# Altium footprint library Bicycle_Project.PcbLib: 21 footprints (part 1 of 2)
Each footprint in its own frame and in the unit in brackets; x right, y up, seen from the top. Pads: shape width x height; smd on the part's side, far side on the other; paste and mask are expansions set on the pad; w line width, h text height; cw(c..) or ccw(c..) is an arc to the next point about the centre after c.
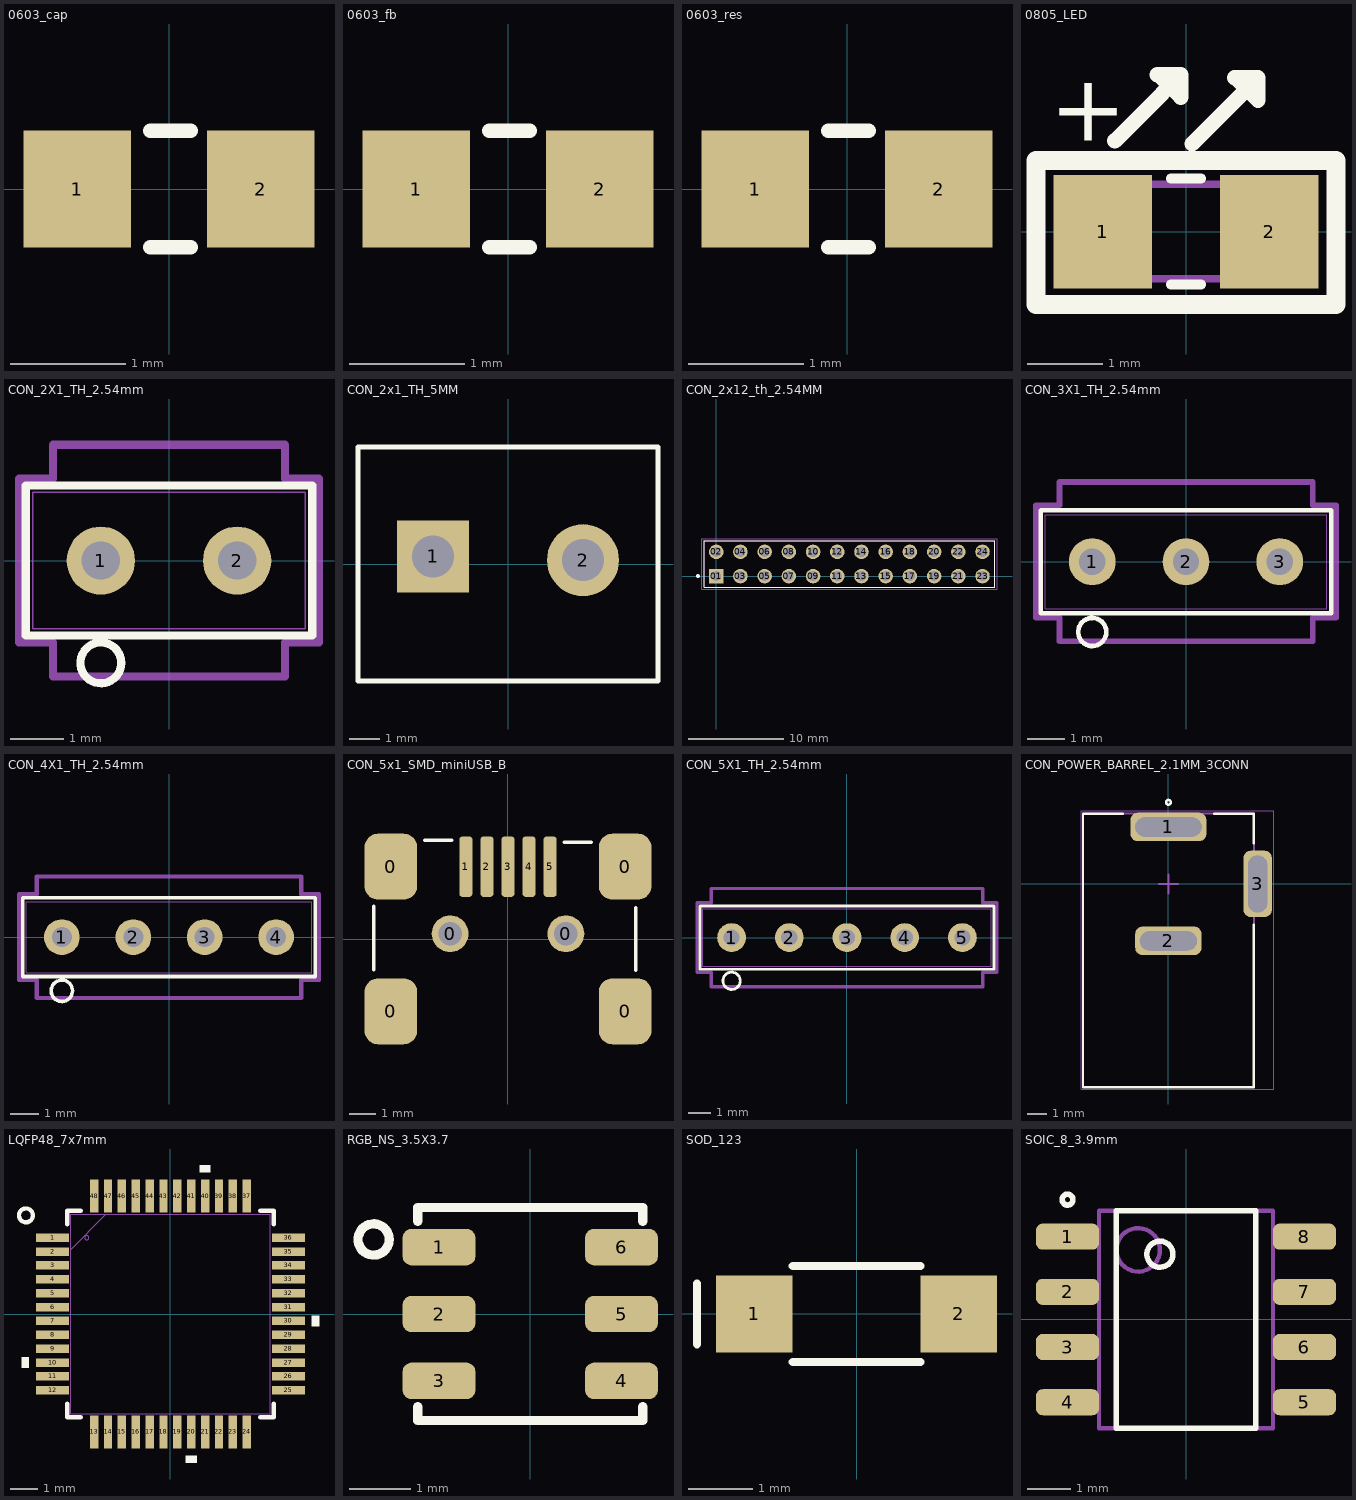
[diagram p0: the footprints below, top view; thin cyan lines are the x and y axes]

## 0603_cap [mil]
pads (2):
  rect 37x40 smd: 1(-31.5,0) 2(31.5,0)
Top Overlay:
  lines w5: -6.5,-20 7.5,-20 ; -6.5,20 7.5,20
3D body "CircuitWorks-CAPACITOR 0603.STEP": height 34.36, standoff 0.5, extent -31.5,-16.93 31.5,16.93

## 0603_fb [mil]
pads (2):
  rect 37x40 smd: 1(-31.5,0) 2(31.5,0)
Top Overlay:
  lines w5: -6.5,-20 7.5,-20 ; -6.5,20 7.5,20
3D body "742792602.stp": height 32, standoff 0.5, extent -31.5,-15.75 31.49,15.75

## 0603_res [mil]
pads (2):
  rect 37x40 smd: 1(-31.5,0) 2(31.5,0)
Top Overlay:
  lines w5: -6.5,-20 7.5,-20 ; -6.5,20 7.5,20
3D body "C0603.step": height 11.89, standoff 0, extent -31.5,-15.75 31.5,15.75

## 0805_LED [mm]
pads (2):
  rect 1.3x1.5 smd: 1(-1.1,0) 2(1.1,0)
Top Overlay:
  lines w0.127: -0.2,-0.7 0.2,-0.7 ; -0.2,0.7 0.2,0.7
  lines w0.203: -0.941,1.197 -0.306,1.832 ; -0.38,2.072 -0.069,2.072 -0.069,1.775 -0.366,2.072 ; 0.079,1.157 0.714,1.792 ; 0.64,2.032 0.951,2.032 0.951,1.735 0.654,2.032
  lines w0.254: -1.981,-0.965 -1.981,0.94 1.981,0.94 1.981,-0.965 -1.981,-0.965
  text "+" at -1.8,1.2 h0.89
Mechanical 1:
  lines w0.1: -0.7,-0.625 -0.7,0.625 ; 0.7,-0.625 0.7,0.625 ; -1,-0.625 -1,0.625 1,0.625 1,-0.625 -1,-0.625
3D body: height 0.5, standoff 0, extent -1,-0.625 1,0.625
3D body: height 1.1, standoff 0.5, extent -0.7,-0.625 0.7,0.625

## CON_2X1_TH_2.54mm [mil]
pads (2):
  round 50 / inner round 60 / far side round 50 hole 28 paste-99999 mask+0: 1(-50,0) 2(50,0)
Top Overlay:
  circle w6: c-50,-75 r15
  lines w6: -105,-55 -105,55 105,55 105,-55 -105,-55
Bottom Overlay:
  circle w20: c-50,-75 r15
Mechanical 13:
  circle w0: c-50,0 r10
  lines w1: -100,-50 -100,50 100,50 100,-50 -100,-50
Mechanical 15:
  lines w6: -110,-60 -85,-60 -85,-85 85,-85 85,-60 110,-60 110,60 85,60 85,85 -85,85 -85,60 -110,60 -110,-60
3D body "TS-102-T-A.step": height 326, standoff -151, extent -104,-50 104,50

## CON_2x1_TH_5MM [mm]
pads (2):
  rect 2.4x2.4 hole 1.4: 1(-2.5,0.254)
  round 2.4 hole 1.4: 2(2.5,0.127)
Top Overlay:
  lines w0.152: -5,-3.9 5,-3.9 5,3.9 -5,3.9 -5,-3.9
3D body "691137710002.step": height 11.5, standoff -3.6, extent -5,-3.75 5,3.75

## CON_2x12_th_2.54MM [mm]
height 10
pads (24):
  rect 1.53x1.53 hole 1.02: 01(0,0)
  round 1.53 hole 1.02: 02(0,2.54) 03(2.54,0) 04(2.54,2.54) 05(5.08,0) 06(5.08,2.54) 07(7.62,0) 08(7.62,2.54) 09(10.16,0) 10(10.16,2.54) 11(12.7,0) 12(12.7,2.54) 13(15.24,0) 14(15.24,2.54) 15(17.78,0) 16(17.78,2.54) 17(20.32,0) 18(20.32,2.54) 19(22.86,0) 20(22.86,2.54) 21(25.4,0) 22(25.4,2.54) 23(27.94,0) 24(27.94,2.54)
Top Overlay:
  circle w0.2: c-1.92,0 r0.1
  lines w0.127: -1.27,-1.145 -1.27,3.685 29.21,3.685 29.21,-1.145 -1.27,-1.145
Mechanical 13:
  circle w0.2: c-1.92,0 r0.1
  lines w0.127: -1.27,-1.145 -1.27,3.685 ; -1.27,-1.145 29.21,-1.145 ; -1.27,-1.145 -1.27,3.685 ; -1.27,3.685 29.21,3.685 ; -1.27,3.685 29.21,3.685 ; 29.21,-1.145 29.21,3.685 ; 29.21,-1.145 29.21,3.685
Mechanical 15:
  lines w0.05: -1.52,-1.395 -1.52,3.935 29.46,3.935 29.46,-1.395 -1.52,-1.395
3D body "step_temp.STEP": height 8.18, standoff -3.25, extent -1.27,-1.145 29.21,3.685

## CON_3X1_TH_2.54mm [mil]
pads (3):
  round 50 / inner round 60 / far side round 50 hole 28 paste-99999 mask+0: 1(-100,0) 2(0,0) 3(100,0)
Top Overlay:
  circle w5: c-100,-75 r15
  lines w5: -155,-55 -155,55 155,55 155,-55 -155,-55
Bottom Overlay:
  circle w20: c-100,-75 r15
Mechanical 13:
  circle w0: c-100,0 r10
  lines w1: -150,-50 -150,50 150,50 150,-50 -150,-50
Mechanical 15:
  lines w6: -160,-60 -135,-60 -135,-85 135,-85 135,-60 160,-60 160,60 135,60 135,85 -135,85 -135,60 -160,60 -160,-60
3D body "TS-103-T-A.step": height 326, standoff -151, extent -154,-50 154,50

## CON_4X1_TH_2.54mm [mil]
pads (4):
  round 50 / inner round 60 / far side round 50 hole 28 paste-99999 mask+0: 1(-150,0) 2(-50,0) 3(50,0) 4(150,0)
Top Overlay:
  circle w5: c-150,-75 r15
  lines w5: -205,-55 -205,55 205,55 205,-55 -205,-55
Bottom Overlay:
  circle w20: c-150,-75 r15
Mechanical 13:
  circle w0: c-150,0 r10
  lines w1: -200,-50 -200,50 200,50 200,-50 -200,-50
Mechanical 15:
  lines w6: -210,-60 -185,-60 -185,-85 185,-85 185,-60 210,-60 210,60 185,60 185,85 -185,85 -185,60 -210,60 -210,-60
3D body "TS-104-T-A.step": height 326, standoff -151, extent -204,-50 204,50

## CON_5x1_SMD_miniUSB_B [mm]
pads (11):
  rrect50% 2x2.5 smd: 0(-4.45,-2.75) 0(-4.45,2.75) 0(4.45,-2.75) 0(4.45,2.75)
  round 1.4 hole 0.889: 0(-2.2,0.2) 0(2.2,0.2)
  rrect50% 0.5x2.3 smd: 1(-1.6,2.75) 2(-0.8,2.75) 3(0,2.75) 4(0.8,2.75) 5(1.6,2.75)
Top Overlay:
  lines w0.127: -5.105,-1.172 -5.105,1.241 ; -3.175,3.756 -2.134,3.756 ; 2.134,3.68 3.175,3.68 ; 4.851,-1.197 4.851,1.191
3D body "usb_a-usb_b-m5-smd-c.stp": height 4, standoff -0.93, extent -5.102,-5.596 4.798,3.654

## CON_5X1_TH_2.54mm [mil]
pads (5):
  round 50 / inner round 60 / far side round 50 hole 28 paste-99999 mask+0: 1(-200,0) 2(-100,0) 3(0,0) 4(100,0) 5(200,0)
Top Overlay:
  circle w5: c-200,-75 r15
  lines w5: -255,-55 255,-55 255,55 -255,55 -255,-55
Bottom Overlay:
  circle w20: c-200,-75 r15
Mechanical 13:
  circle w0: c-200,0 r10
  lines w1: -250,-50 250,-50 250,50 -250,50 -250,-50
Mechanical 15:
  lines w6: -260,-60 -260,60 -235,60 -235,85 235,85 235,60 260,60 260,-60 235,-60 235,-85 -235,-85 -235,-60 -260,-60
3D body "TS-105-T-A.step": height 326, standoff -151, extent -254,-50 254,50

## CON_POWER_BARREL_2.1MM_3CONN [mm]
pads (3):
  rrect50% 4x1.5 hole 1.016 slot 3.5 at 0 deg: 1(0,3)
  rrect50% 3.5x1.5 hole 1.016 slot 3 at 0 deg: 2(0,-3)
  rrect50% 1.5x3.5 hole 1.016 slot 3 at 90 deg: 3(4.7,0)
Top Overlay:
  circle w0.127: c0,4.3 r0.125
  lines w0.127: -2.4,3.7 -4.5,3.7 -4.5,-10.7 4.5,-10.7 4.5,-2.15 ; 2.4,3.7 4.5,3.7 4.5,2.15
Mechanical 1:
  lines w0.1: -4.5,-10.7 4.5,-10.7 4.5,3.7 -4.5,3.7 -4.5,-10.7
Mechanical 15:
  lines w0.05: -4.6,-10.8 -4.6,3.85 5.55,3.85 5.55,-10.8 -4.6,-10.8
  lines w0.1: -0.5,0 0.5,0 ; 0,-0.5 0,0.5
3D body "pj-002a.stp": height 11, standoff -3.5, extent -4.5,-10.7 4.9,3.7

## LQFP48_7x7mm [mm]
pads (48):
  rect 1.194x0.305 smd paste+0 mask+0.046: 1(-4.25,2.75) 2(-4.25,2.25) 3(-4.25,1.75) 4(-4.25,1.25) 5(-4.25,0.75) 6(-4.25,0.25) 7(-4.25,-0.25) 8(-4.25,-0.75) 9(-4.25,-1.25) 10(-4.25,-1.75) 11(-4.25,-2.25) 12(-4.25,-2.75) 25(4.25,-2.75) 26(4.25,-2.25) 27(4.25,-1.75) 28(4.25,-1.25) 29(4.25,-0.75) 30(4.25,-0.25) 31(4.25,0.25) 32(4.25,0.75) 33(4.25,1.25) 34(4.25,1.75) 35(4.25,2.25) 36(4.25,2.75)
  rect 0.305x1.194 smd paste+0 mask+0.046: 13(-2.75,-4.25) 14(-2.25,-4.25) 15(-1.75,-4.25) 16(-1.25,-4.25) 17(-0.75,-4.25) 18(-0.25,-4.25) 19(0.25,-4.25) 20(0.75,-4.25) 21(1.25,-4.25) 22(1.75,-4.25) 23(2.25,-4.25) 24(2.75,-4.25) 37(2.75,4.25) 38(2.25,4.25) 39(1.75,4.25) 40(1.25,4.25) 41(0.75,4.25) 42(0.25,4.25) 43(-0.25,4.25) 44(-0.75,4.25) 45(-1.25,4.25) 46(-1.75,4.25) 47(-2.25,4.25) 48(-2.75,4.25)
Top Overlay:
  circle w0.152: c-5.207,3.556 r0.251
  region: -5.101,-1.559 -5.355,-1.559 -5.355,-1.94 -5.101,-1.94
  region: 5.101,-0.059 5.355,-0.059 5.355,-0.44 5.101,-0.44
  region: 1.441,5.101 1.06,5.101 1.06,5.355 1.441,5.355
  region: 0.941,-5.101 0.56,-5.101 0.56,-5.355 0.941,-5.355
  lines w0.152: -3.721,-3.235 -3.721,-3.721 -3.235,-3.721 ; -3.721,3.235 -3.721,3.721 -3.235,3.721 ; 3.235,-3.721 3.721,-3.721 3.721,-3.235 ; 3.235,3.721 3.721,3.721 3.721,3.235
Mechanical 13:
  circle w0: c-3.018,2.75 r0.076
  lines w0.025: -3.594,2.324 -2.324,3.594 ; -3.594,-3.594 3.594,-3.594 3.594,3.594 -3.594,3.594 -3.594,-3.594
3D body "LQFP48-7x7mm.step": height 1.6, standoff 0, extent -4.497,-4.497 4.497,4.497

## RGB_NS_3.5X3.7 [mm]
pads (6):
  rrect50% 1.2x0.6 smd: 1(-1.5,1.1) 2(-1.5,0) 3(-1.5,-1.1) 4(1.5,-1.1) 5(1.5,0) 6(1.5,1.1)
Top Overlay:
  circle w0.152: c-2.575,1.225 r0.257
  lines w0.152: -1.85,-1.524 -1.85,-1.75 1.85,-1.75 1.85,-1.524 ; -1.85,1.524 -1.85,1.75 1.85,1.75 1.85,1.524
3D body "ASMB-TTF2-0B20B.step": height 2.8, standoff 0, extent -1.85,-1.75 1.85,1.75

## SOD_123 [mm]
pads (2):
  rect 1.2x1.2 smd: 1(-1.6,0) 2(1.6,0)
Top Overlay:
  lines w0.127: -2.5,-0.475 -2.5,0.475 ; -1,-0.75 1,-0.75 ; -1,0.749 1,0.749
3D body "SOD123.step": height 1.28, standoff 0.01, extent -1.926,-0.8 1.774,0.8

## SOIC_8_3.9mm [mm]
pads (8):
  rrect50% 1.45x0.6 smd: 1(-2.725,1.905) 2(-2.725,0.635) 3(-2.725,-0.635) 4(-2.725,-1.905) 5(2.725,-1.905) 6(2.725,-0.635) 7(2.725,0.635) 8(2.725,1.905)
Top Overlay:
  circle w0.127: c-0.6,1.5 r0.3
  circle w0.127: c-2.725,2.755 r0.125
  lines w0.127: -1.6,-2.5 1.6,-2.5 1.6,2.5 -1.6,2.5 -1.6,-2.5
Mechanical 1:
  circle w0.1: c-1.1,1.6 r0.5
  lines w0.1: -2,-2.5 -2,2.5 2,2.5 2,-2.5 -2,-2.5
3D body "SOIC127P600X173-8N.step": height 1.73, standoff 0, extent -3.01,-2.5 3.01,2.5